# Altium footprint library PCB - CHOKE - LAIRD CMA0805.PCBLIB: 1 footprints
Each footprint in its own frame and in the unit in brackets; x right, y up, seen from the top. Pads: shape width x height; smd on the part's side, far side on the other; paste and mask are expansions set on the pad; w line width, h text height; cw(c..) or ccw(c..) is an arc to the next point about the centre after c.
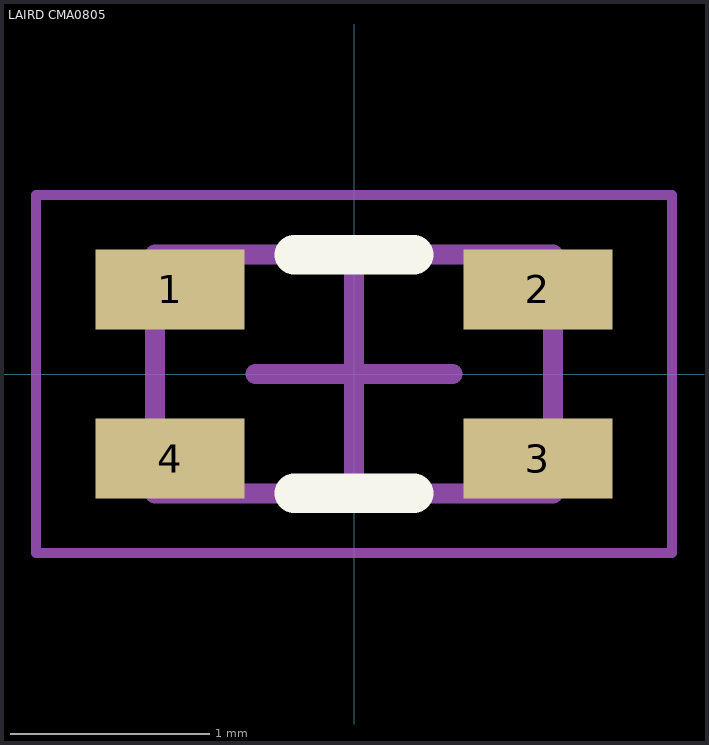
[diagram p0: the footprint, top view; thin cyan lines are the x and y axes]

## LAIRD CMA0805 [mm] "Chip Common Mode Choke, 4-Leads, Body 2.0x1.2mm"
height 1.4
pads (4):
  rect 0.75x0.4 smd: 1(-0.925,0.425) 2(0.925,0.425) 3(0.925,-0.425) 4(-0.925,-0.425)
Top Overlay:
  lines w0.2: -0.3,-0.6 0.3,-0.6 ; -0.3,0.6 0.3,0.6
Mechanical 13:
  lines w0.1: -1,-0.6 1,-0.6 1,0.6 -1,0.6 -1,-0.6
Mechanical 15:
  lines w0.05: -1.6,-0.9 -1.6,0.9 1.6,0.9 1.6,-0.9 -1.6,-0.9
  lines w0.1: -0.495,0 0.495,0 ; 0,-0.495 0,0.495
3D body "Laird CMA0805.step": height 1.4, standoff 0, extent -1.01,-0.61 1.01,0.61